# Altium footprint library STM32F103ZET6(Mini)核心板---整体封装.PcbLib: 1 footprints
Each footprint in its own frame and in the unit in brackets; x right, y up, seen from the top. Pads: shape width x height; smd on the part's side, far side on the other; paste and mask are expansions set on the pad; w line width, h text height; cw(c..) or ccw(c..) is an arc to the next point about the centre after c.
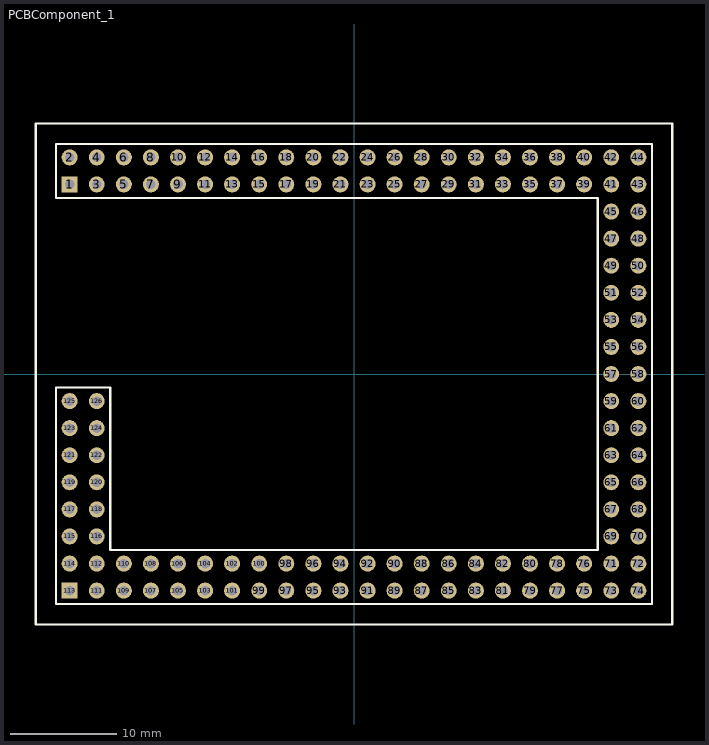
[diagram p0: the footprint, top view; thin cyan lines are the x and y axes]

## PCBComponent_1 [mm]
pads (126):
  rect 1.5x1.5 hole 0.9: 1(-26.67,17.78) 113(-26.67,-20.32)
  round 1.5 hole 0.9: 2(-26.67,20.32) 3(-24.13,17.78) 4(-24.13,20.32) 5(-21.59,17.78) 6(-21.59,20.32) 7(-19.05,17.78) 8(-19.05,20.32) 9(-16.51,17.78) 10(-16.51,20.32) 11(-13.97,17.78) 12(-13.97,20.32) 13(-11.43,17.78) 14(-11.43,20.32) 15(-8.89,17.78) 16(-8.89,20.32) 17(-6.35,17.78) 18(-6.35,20.32) 19(-3.81,17.78) 20(-3.81,20.32) 21(-1.27,17.78) 22(-1.27,20.32) 23(1.27,17.78) 24(1.27,20.32) 25(3.81,17.78) 26(3.81,20.32) 27(6.35,17.78) 28(6.35,20.32) 29(8.89,17.78) 30(8.89,20.32) 31(11.43,17.78) 32(11.43,20.32) 33(13.97,17.78) 34(13.97,20.32) 35(16.51,17.78) 36(16.51,20.32) 37(19.05,17.78) 38(19.05,20.32) 39(21.59,17.78) 40(21.59,20.32) 41(24.13,17.78) 42(24.13,20.32) 43(26.67,17.78) 44(26.67,20.32) 45(24.13,15.24) 46(26.67,15.24) 47(24.13,12.7) 48(26.67,12.7) 49(24.13,10.16) 50(26.67,10.16) 51(24.13,7.62) 52(26.67,7.62) 53(24.13,5.08) 54(26.67,5.08) 55(24.13,2.54) 56(26.67,2.54) 57(24.13,0) 58(26.67,0) 59(24.13,-2.54) 60(26.67,-2.54) 61(24.13,-5.08) 62(26.67,-5.08) 63(24.13,-7.62) 64(26.67,-7.62) 65(24.13,-10.16) 66(26.67,-10.16) 67(24.13,-12.7) 68(26.67,-12.7) 69(24.13,-15.24) 70(26.67,-15.24) 71(24.13,-17.78) 72(26.67,-17.78) 73(24.13,-20.32) 74(26.67,-20.32) 75(21.59,-20.32) 76(21.59,-17.78) 77(19.05,-20.32) 78(19.05,-17.78) 79(16.51,-20.32) 80(16.51,-17.78) 81(13.97,-20.32) 82(13.97,-17.78) 83(11.43,-20.32) 84(11.43,-17.78) 85(8.89,-20.32) 86(8.89,-17.78) 87(6.35,-20.32) 88(6.35,-17.78) 89(3.81,-20.32) 90(3.81,-17.78) 91(1.27,-20.32) 92(1.27,-17.78) 93(-1.27,-20.32) 94(-1.27,-17.78) 95(-3.81,-20.32) 96(-3.81,-17.78) 97(-6.35,-20.32) 98(-6.35,-17.78) 99(-8.89,-20.32) 100(-8.89,-17.78) 101(-11.43,-20.32) 102(-11.43,-17.78) 103(-13.97,-20.32) 104(-13.97,-17.78) 105(-16.51,-20.32) 106(-16.51,-17.78) 107(-19.05,-20.32) 108(-19.05,-17.78) 109(-21.59,-20.32) 110(-21.59,-17.78) 111(-24.13,-20.32) 112(-24.13,-17.78) 114(-26.67,-17.78) 115(-26.67,-15.24) 116(-24.13,-15.24) 117(-26.67,-12.7) 118(-24.13,-12.7) 119(-26.67,-10.16) 120(-24.13,-10.16) 121(-26.67,-7.62) 122(-24.13,-7.62) 123(-26.67,-5.08) 124(-24.13,-5.08) 125(-26.67,-2.54) 126(-24.13,-2.54)
Top Overlay:
  lines w0.2: 22.86,-16.51 22.86,16.51 -27.94,16.51 -27.94,21.59 27.94,21.59 27.94,16.51 27.94,-16.51 27.94,-21.59 -27.94,-21.59 -27.94,-16.51 -27.94,-1.27 -22.86,-1.27 -22.86,-16.51 22.885,-16.51
  lines w0.203: -29.845,-23.495 -29.845,23.495 29.845,23.495 29.845,-23.495 -29.845,-23.495